# EAGLE library part 70-4A (library pot)
ModPot, 2-Section
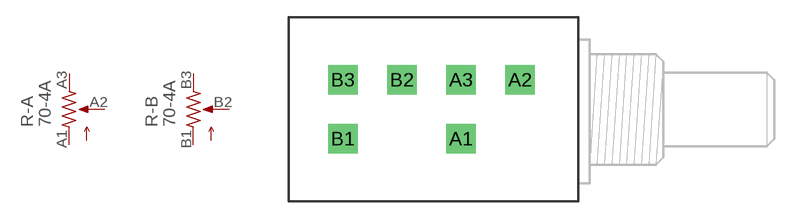
[diagram p4: symbol with the pads of 70-4A; footprint 70-4A]

Designator prefix R; gates -A=POT_US- -B=POT_US-

## 70-4A  [70-4A]
A1  -A:1  pas
A2  -A:2  pas
A3  -A:3  pas
B1  -B:1  pas
B2  -B:2  pas
B3  -B:3  pas

## Footprint 70-4A (pad centres in mm)
70 Series ModPot 2 Deck, Dual
drill 1.016 pad 2.54 square: A1 -11.049,-2.54; A2 -5.969,2.54; A3 -11.049,2.54; B1 -21.209,-2.54; B2 -16.129,2.54; B3 -21.209,2.54